# Altium footprint library PADS_Holes_connectors.PcbLib: 10 footprints
Each footprint in its own frame and in the unit in brackets; x right, y up, seen from the top. Pads: shape width x height; smd on the part's side, far side on the other; paste and mask are expansions set on the pad; w line width, h text height; cw(c..) or ccw(c..) is an arc to the next point about the centre after c.
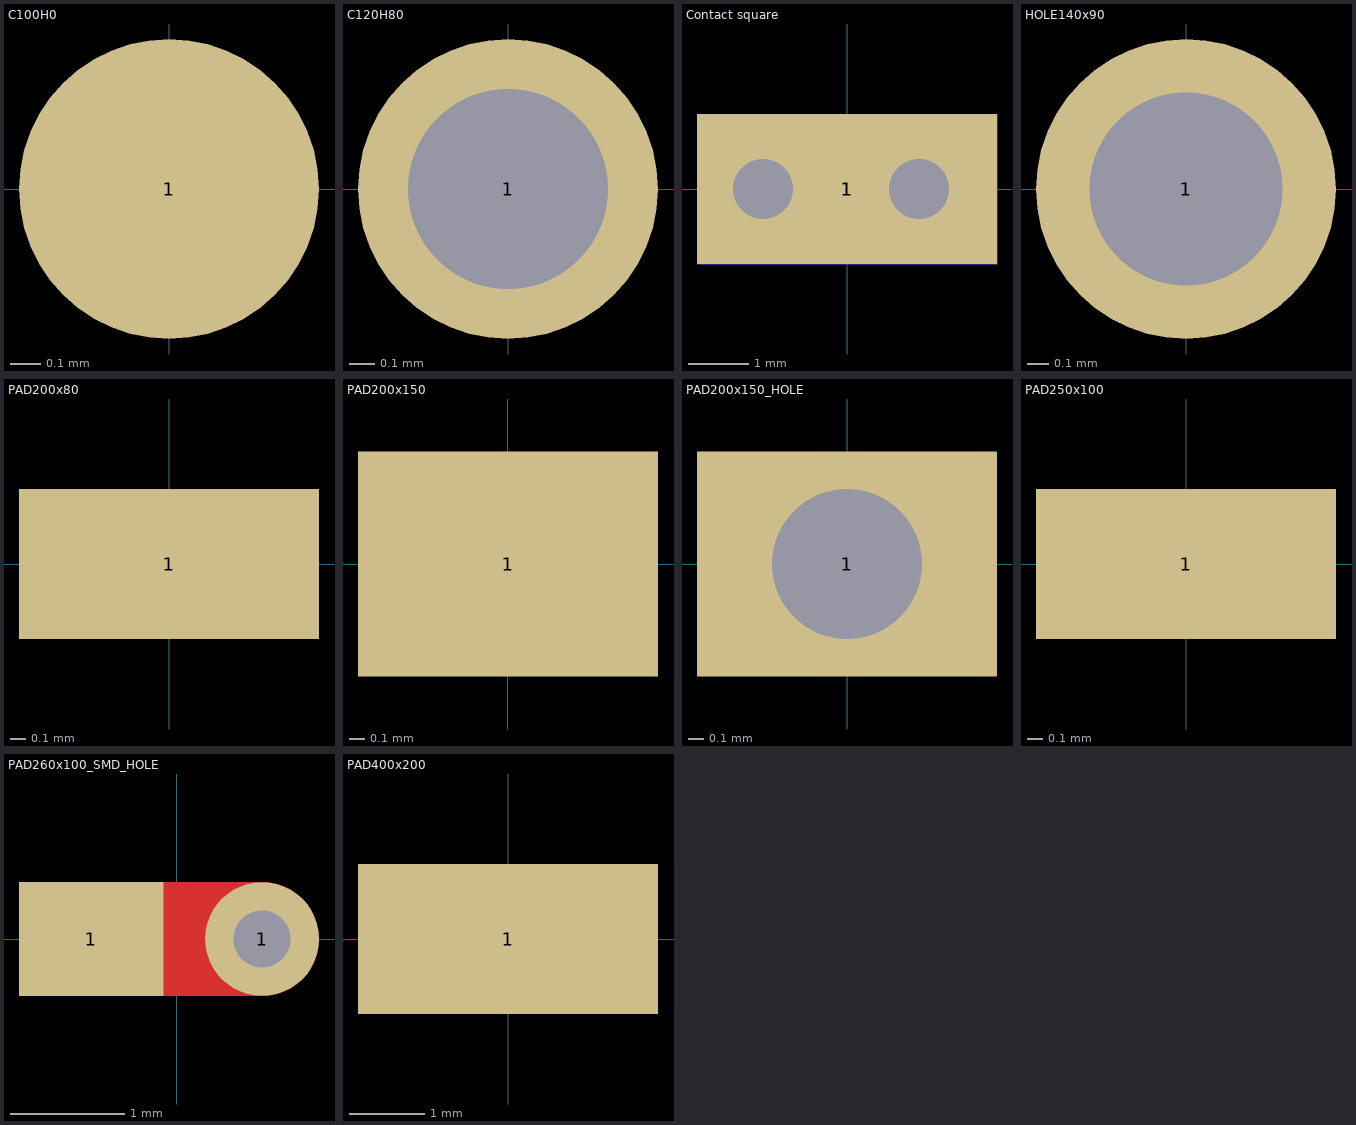
[diagram p0: the footprints below, top view; thin cyan lines are the x and y axes]

## C100H0 [mm]
pads (1):
  round 1 smd: 1(0,0)

## C120H80 [mm]
pads (1):
  round 1.2 hole 0.8: 1(0,0)

## Contact square [mm] "Contact square 5.0x2.5 mm with hole d = 1 mm"
pads (2):
  rect 5x2.5 smd paste+0: 1(0,0)
  rect 5x2.5 smd far side paste+0: 1(0,0)
via 1.2,0 diameter 1.5 hole 1
via -1.4,0 diameter 1.5 hole 1

## HOLE140x90 [mm] "1.4mm x 0.9mm Hole Pad"
pads (1):
  round 1.4 hole 0.9: 1(0,0)

## PAD200x80 [mm] "2mm x 0.8mm SMD Pad"
pads (1):
  rect 2x1 smd: 1(0,0)

## PAD200x150 [mm]
pads (1):
  rect 2x1.5 smd: 1(0,0)

## PAD200x150_HOLE [mm] "2mm x 0.8mm SMD Pad"
pads (1):
  rect 2x1.5 hole 1: 1(0,0)

## PAD250x100 [mm] "2.5mm x 1.0mm SMD Pad"
pads (1):
  rect 2x1 smd: 1(0,0)

## PAD260x100_SMD_HOLE [mm] "2mm x 0.8mm SMD Pad"
pads (2):
  rect 1.27x1 smd: 1(-0.75,0)
  round 1 hole 0.5: 1(0.75,0)
Top Layer:
  lines w1: -0.75,0 0.75,0

## PAD400x200 [mm] "4mm x 2mm SMD Pad"
pads (1):
  rect 4x2 smd: 1(0,0)